# Altium footprint library TLP5754.PcbLib: 3 footprints
Each footprint in its own frame and in the unit in brackets; x right, y up, seen from the top. Pads: shape width x height; smd on the part's side, far side on the other; paste and mask are expansions set on the pad; w line width, h text height; cw(c..) or ccw(c..) is an arc to the next point about the centre after c.
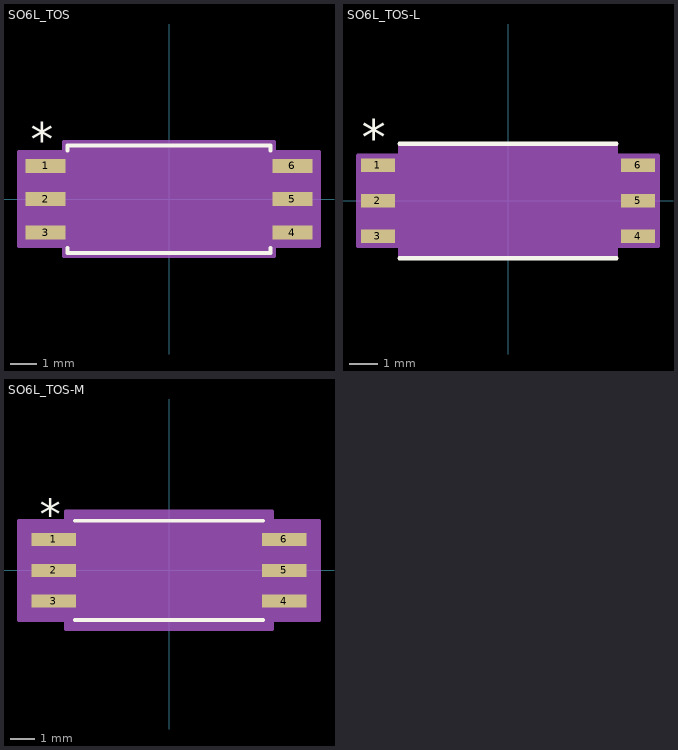
[diagram p0: the footprints below, top view; thin cyan lines are the x and y axes]

## SO6L_TOS [mil] "SO6L_TOS"
pads (6):
  rect 60x21 smd paste+0 mask+0: 1(-185,50) 2(-185,0) 3(-185,-50) 4(185,-50) 5(185,0) 6(185,50)
Top Overlay:
  lines w6: -152.5,-73.36 -152.5,-80.5 152.5,-80.5 152.5,-73.36 ; -152.5,73.36 -152.5,80.5 152.5,80.5 152.5,73.36
  text ".Designator" at -137.5,-25 h50
  text "*" at -207.5,66 h50
Mechanical 13:
  lines w1: -12,75.5 ccw(c0,75.5) 12,75.5 ; -201,-59.5 -201,-40.5 -147.5,-40.5 -147.5,-59.5 -201,-59.5 ; -201,-9.5 -201,9.5 -147.5,9.5 -147.5,-9.5 -201,-9.5 ; -201,40.5 -201,59.5 -147.5,59.5 -147.5,40.5 -201,40.5 ; -147.5,-75.5 147.5,-75.5 147.5,75.5 -147.5,75.5 -147.5,-75.5 ; 147.5,-59.5 147.5,-40.5 201,-40.5 201,-59.5 147.5,-59.5 ; 147.5,-9.5 147.5,9.5 201,9.5 201,-9.5 147.5,-9.5 ; 147.5,40.5 147.5,59.5 201,59.5 201,40.5 147.5,40.5
  text "*" at -145,22.5 h50
  text ".Designator" at -137.5,-25 h50
Mechanical 15:
  region: -157.5,-70.5 -225,-70.5 -225,70.5 -157.5,70.5 -157.5,85.5 157.5,85.5 157.5,70.5 225,70.5 225,-70.5 157.5,-70.5 157.5,-85.5 -157.5,-85.5
  lines w6: -225,-70.5 -225,70.5 -157.5,70.5 -157.5,85.5 157.5,85.5 157.5,70.5 225,70.5 225,-70.5 157.5,-70.5 157.5,-85.5 -157.5,-85.5 -157.5,-70.5 -225,-70.5
3D body "SO6L_TOS.step": height 87.09, standoff 0, extent -200.98,-75.51 200.98,75.51

## SO6L_TOS-L [mil] "SO6L_TOS-L"
pads (6):
  rect 48x19 smd paste+0 mask+0: 1(-183,50) 2(-183,0) 3(-183,-50) 4(183,-50) 5(183,0) 6(183,50)
Top Overlay:
  lines w6: -152.5,-80.5 152.5,-80.5 ; -152.5,80.5 152.5,80.5
  text ".Designator" at -137.5,-25 h50
  text "*" at -205.5,64 h50
Mechanical 13:
  lines w1: -12,75.5 ccw(c0,75.5) 12,75.5 ; -201,-59.5 -201,-40.5 -147.5,-40.5 -147.5,-59.5 -201,-59.5 ; -201,-9.5 -201,9.5 -147.5,9.5 -147.5,-9.5 -201,-9.5 ; -201,40.5 -201,59.5 -147.5,59.5 -147.5,40.5 -201,40.5 ; -147.5,-75.5 147.5,-75.5 147.5,75.5 -147.5,75.5 -147.5,-75.5 ; 147.5,-59.5 147.5,-40.5 201,-40.5 201,-59.5 147.5,-59.5 ; 147.5,-9.5 147.5,9.5 201,9.5 201,-9.5 147.5,-9.5 ; 147.5,40.5 147.5,59.5 201,59.5 201,40.5 147.5,40.5
  text "*" at -145,22.5 h50
  text ".Designator" at -137.5,-25 h50
Mechanical 15:
  region: -151.5,-63.5 -211,-63.5 -211,63.5 -151.5,63.5 -151.5,79.5 151.5,79.5 151.5,63.5 211,63.5 211,-63.5 151.5,-63.5 151.5,-79.5 -151.5,-79.5
  lines w6: -211,-63.5 -211,63.5 -151.5,63.5 -151.5,79.5 151.5,79.5 151.5,63.5 211,63.5 211,-63.5 151.5,-63.5 151.5,-79.5 -151.5,-79.5 -151.5,-63.5 -211,-63.5
3D body "SO6L_TOS.step": height 87.09, standoff 0, extent -200.98,-75.51 200.98,75.51

## SO6L_TOS-M [mil] "SO6L_TOS-M"
pads (6):
  rect 72x21 smd paste+0 mask+0: 1(-187,50) 2(-187,0) 3(-187,-50) 4(187,-50) 5(187,0) 6(187,50)
Top Overlay:
  lines w6: -152.5,-80.5 152.5,-80.5 ; -152.5,80.5 152.5,80.5
  text "*" at -209.5,66 h50
  text ".Designator" at -137.5,-25 h50
Mechanical 13:
  lines w1: -12,75.5 ccw(c0,75.5) 12,75.5 ; -201,-59.5 -147.5,-59.5 -147.5,-40.5 -201,-40.5 -201,-59.5 ; -201,-9.5 -147.5,-9.5 -147.5,9.5 -201,9.5 -201,-9.5 ; -201,40.5 -147.5,40.5 -147.5,59.5 -201,59.5 -201,40.5 ; -147.5,-75.5 -147.5,75.5 147.5,75.5 147.5,-75.5 -147.5,-75.5 ; 147.5,-59.5 201,-59.5 201,-40.5 147.5,-40.5 147.5,-59.5 ; 147.5,-9.5 201,-9.5 201,9.5 147.5,9.5 147.5,-9.5 ; 147.5,40.5 201,40.5 201,59.5 147.5,59.5 147.5,40.5
  text ".Designator" at -137.5,-25 h50
  text "*" at -145,22.5 h50
Mechanical 15:
  region: -167.5,-80.5 -243,-80.5 -243,80.5 -167.5,80.5 -167.5,95.5 167.5,95.5 167.5,80.5 243,80.5 243,-80.5 167.5,-80.5 167.5,-95.5 -167.5,-95.5
  lines w6: -243,-80.5 -167.5,-80.5 -167.5,-95.5 167.5,-95.5 167.5,-80.5 243,-80.5 243,80.5 167.5,80.5 167.5,95.5 -167.5,95.5 -167.5,80.5 -243,80.5 -243,-80.5
3D body "SO6L_TOS.step": height 87.09, standoff 0, extent -200.98,-75.51 200.98,75.51